# Altium schematic symbol library SmarTRC_home.SchLib: 21 symbols
Pins are listed as number, name and electrical type; pins without a type are passive.

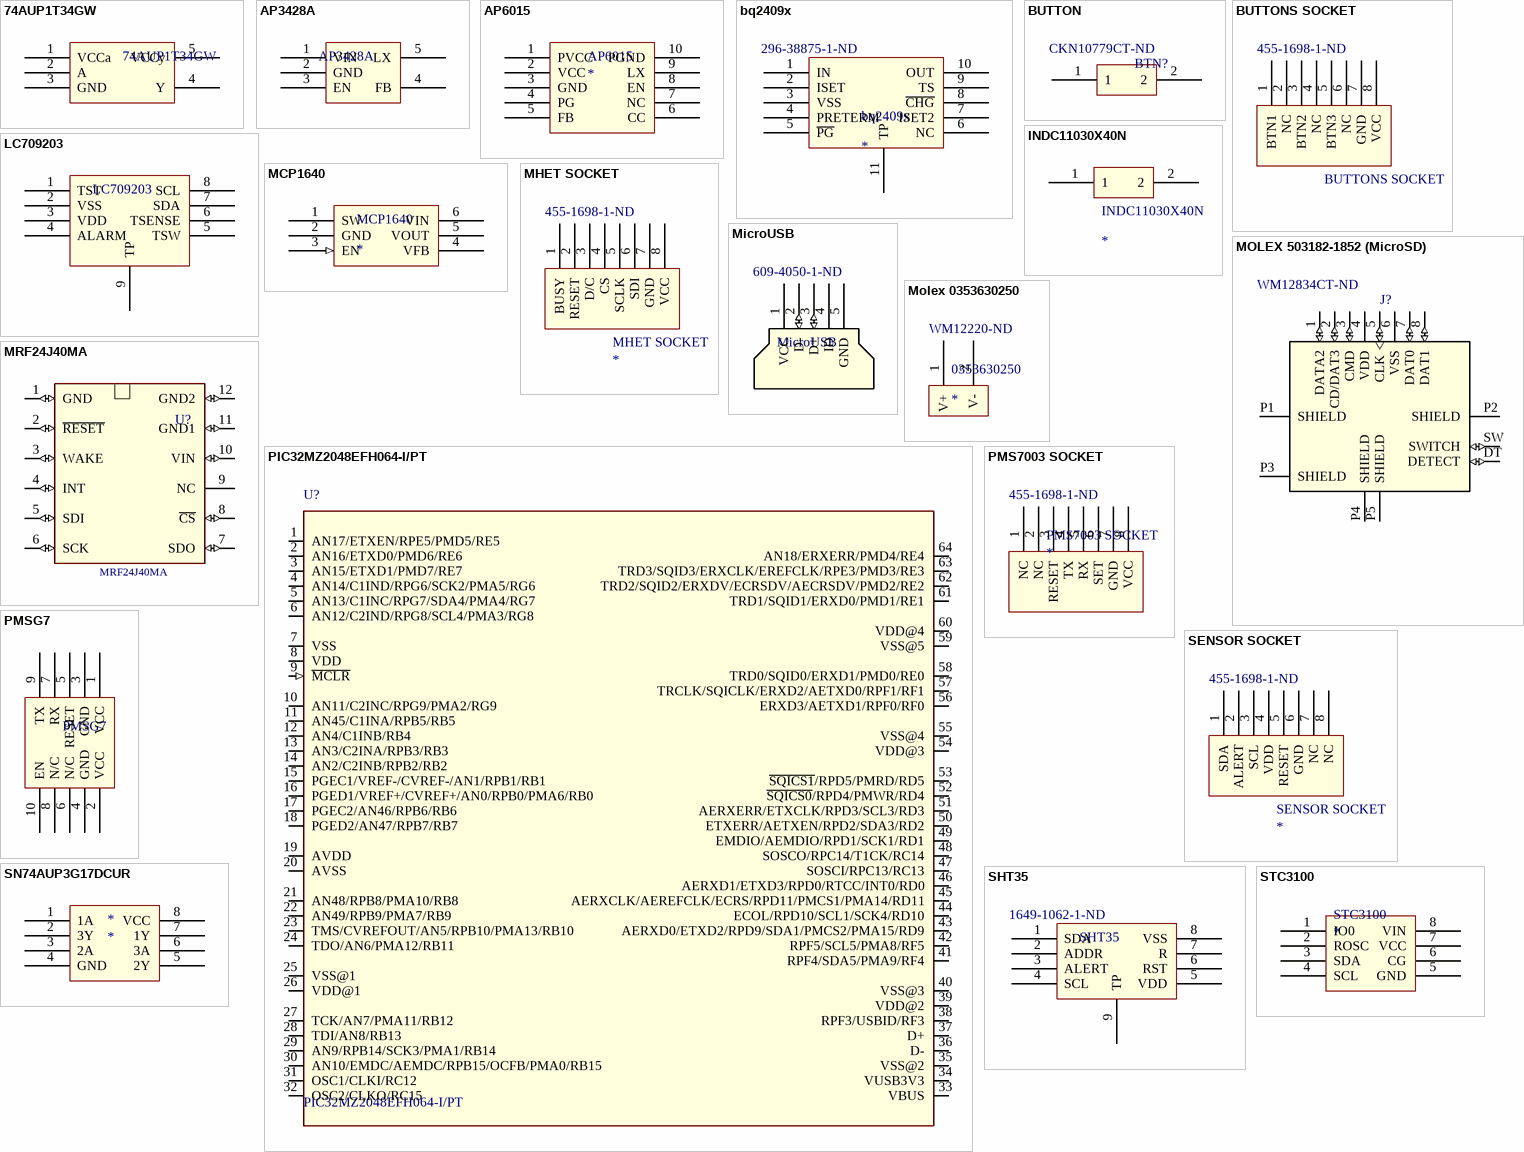
[diagram p0: symbols 74AUP1T34GW to STC3100]

## 74AUP1T34GW
designator 74AUP1T34GW
Supplier 1: Digi-Key; Supplier Part Number 1: 1727-6030-1-ND
footprint 74AUP1T34GW
pins: 1 VCCa, 2 A, 3 GND, 4 Y, 5 VCCy

## AP3428A
designator AP3428A
Supplier 1: Digi-Key; Supplier Part Number 1: AP3428AKTTR-G1DICT-ND
footprint AP3428A
pins: 1 VIN, 2 GND, 3 EN, 4 FB, 5 LX

## AP6015
designator AP6015
footprint AP6015
pins: 1 PVCC (power), 2 VCC (power), 3 GND (power), 4 PG, 5 FB, 6 CC, 7 NC, 8 EN, 9 LX, 10 PGND

## bq2409x
designator bq2409x  Supplier Part Number 1: 296-38875-1-ND
Supplier 1: Digi-Key
footprint bq2409x
pins: 1 IN (power), 2 ISET, 3 VSS (power), 4 PRETERM, 5 ~{PG}, 6 NC, 7 ISET2, 8 ~{CHG}, 9 TS, 10 OUT, 11 TP

## BUTTON
designator BTN?  Supplier Part Number 1: CKN10779CT-ND
Supplier 1: Digi-Key
footprint BUTTON
pins: 1, 2

## BUTTONS SOCKET
designator BUTTONS SOCKET  Supplier Part Number 1: 455-1698-1-ND
Supplier 1: Digi-Key
footprint S8B-ZR-SM4A-TF
pins: 1 BTN1, 2 NC, 3 BTN2, 4 NC, 5 BTN3, 6 NC, 7 GND, 8 VCC

## INDC11030X40N
designator INDC11030X40N
footprint INDC11030X40N
pins: 1, 2

## LC709203
designator LC709203
Supplier 1: Digi-Key; Supplier Part Number 1: LC709203FQH-01TWGOSCT-ND
footprint LC709203
pins: 1 TST, 2 VSS, 3 VDD, 4 ALARM, 5 TSW, 6 TSENSE, 7 SDA, 8 SCL, 9 TP

## MCP1640
designator MCP1640
footprint MCP1640
pins: 1 SW, 2 GND (power), 3 EN (in), 4 VFB, 5 VOUT (power), 6 VIN (power)

## MHET SOCKET
designator MHET SOCKET  Supplier Part Number 1: 455-1698-1-ND
Supplier 1: Digi-Key
footprint S8B-ZR-SM4A-TF
pins: 1 BUSY, 2 RESET, 3 D/C, 4 CS, 5 SCLK, 6 SDI, 7 GND, 8 VCC

## MicroUSB
designator MicroUSB  Supplier Part Number 1: 609-4050-1-ND
Supplier 1: Digi-Key
footprint MicroUSB
pins: 1 VCC (power), 2 D- (io), 3 D+ (io), 4 ID, 5 GND (power)

## MOLEX 503182-1852 (MicroSD)
designator J?  Supplier Part Number 1: WM12834CT-ND
MICRO SD NORMAL ULTRALOWPRO8CKTE; MP: 5031821852; MF: Molex; Digi-Key_Purchase_URL: https://www.digikey.es/product-detail/en/molex/5031821852/WM12834CT-ND/5823232?utm_source=snapeda&utm_medium=aggregator&utm_campaign=symbol; Package: None; SnapEDA_Link: https://www.snapeda.com/parts/5031821852/Molex/view-part/?ref=snap; Digi-Key_Part_Number: WM12834CT-ND; Value: *; Supplier 1: Digi-Key
footprint MOLEX 503182-1852 (MicroSD)
footprint MOLEX 503182-1852 (MicroSD)
pins: 1 DATA2 (io), 2 CD/DAT3 (io), 3 CMD (io), 4 VDD (power), 5 CLK (io), 6 VSS (power), 7 DAT0 (io), 8 DAT1 (io), DT DETECT (io), P1 SHIELD, P2 SHIELD, P3 SHIELD, P4 SHIELD, P5 SHIELD, SW SWITCH (io)

## Molex 0353630250
designator 0353630250  Supplier Part Number 1: WM12220-ND
Supplier 1: Digi-Key
footprint Molex 0353630250
pins: 1 V+, 2 V-

## MRF24J40MA
designator U?
Wireless Transceiver Module; MP: MRF24J40MA; MF: Microchip; Package: Module Microchip; Digi-Key_Purchase_URL: https://www.digikey.es/product-detail/en/microchip-technology/MRF24J40MAT-I-RM/MRF24J40MAT-I-RMTR-ND/2002555?utm_source=snapeda&utm_medium=aggregator&utm_campaign=symbol; Digi-Key_Part_Number: MRF24J40MAT-I/RMTR-ND; SnapEDA_Link: https://www.snapeda.com/parts/MRF24J40MA/Microchip/view-part/?ref=snap; Value: *
footprint MRF24J40MA (SM Module; 12 Leads; Body 27.9x17.8x1.7mm (LxWxH), Microchip Recommended)
pins: 1 GND (io), 2 ~{RESET} (io), 3 WAKE (io), 4 INT (io), 5 SDI (io), 6 SCK (io), 7 SDO (io), 8 ~{CS} (io), 9 NC, 10 VIN (io), 11 GND1 (io), 12 GND2 (io)

## PIC32MZ2048EFH064-I/PT
designator U?
PIC32MZ Series 2 MB Flash 512 kB RAM 200 MHz 32-Bit Microcontroller - TQFP-64; MF: Microchip; SnapEDA_Link: https://www.snapeda.com/parts/PIC32MZ2048EFH064-I/PT/Microchip/view-part/?ref=snap; Package: TQFP-64 Microchip; Availability: Unavailable; Price: None; MP: PIC32MZ2048EFH064-I/PT; Value: *
footprint PIC32MZ2048EFH064
pins: 1 AN17/ETXEN/RPE5/PMD5/RE5 (io), 2 AN16/ETXD0/PMD6/RE6 (io), 3 AN15/ETXD1/PMD7/RE7 (io), 4 AN14/C1IND/RPG6/SCK2/PMA5/RG6 (io), 5 AN13/C1INC/RPG7/SDA4/PMA4/RG7 (io), 6 AN12/C2IND/RPG8/SCL4/PMA3/RG8 (io), 7 VSS (power), 8 VDD (power), 9 ~{MCLR} (in), 10 AN11/C2INC/RPG9/PMA2/RG9 (io), 11 AN45/C1INA/RPB5/RB5 (io), 12 AN4/C1INB/RB4 (io), 13 AN3/C2INA/RPB3/RB3 (io), 14 AN2/C2INB/RPB2/RB2 (io), 15 PGEC1/VREF-/CVREF-/AN1/RPB1/RB1 (io), 16 PGED1/VREF+/CVREF+/AN0/RPB0/PMA6/RB0 (io), 17 PGEC2/AN46/RPB6/RB6 (io), 18 PGED2/AN47/RPB7/RB7 (io), 19 AVDD (power), 20 AVSS (power), 21 AN48/RPB8/PMA10/RB8 (io), 22 AN49/RPB9/PMA7/RB9 (io), 23 TMS/CVREFOUT/AN5/RPB10/PMA13/RB10 (io), 24 TDO/AN6/PMA12/RB11 (io), 25 VSS@1 (power), 26 VDD@1 (power), 27 TCK/AN7/PMA11/RB12 (io), 28 TDI/AN8/RB13 (io), 29 AN9/RPB14/SCK3/PMA1/RB14 (io), 30 AN10/EMDC/AEMDC/RPB15/OCFB/PMA0/RB15 (io), 31 OSC1/CLKI/RC12 (io), 32 OSC2/CLKO/RC15 (io), 33 VBUS (power), 34 VUSB3V3 (power), 35 VSS@2 (power), 36 D- (io), 37 D+ (io), 38 RPF3/USBID/RF3 (io), 39 VDD@2 (power), 40 VSS@3 (power), 41 RPF4/SDA5/PMA9/RF4 (io), 42 RPF5/SCL5/PMA8/RF5 (io), 43 AERXD0/ETXD2/RPD9/SDA1/PMCS2/PMA15/RD9 (io), 44 ECOL/RPD10/SCL1/SCK4/RD10 (io), 45 AERXCLK/AEREFCLK/ECRS/RPD11/PMCS1/PMA14/RD11 (io), 46 AERXD1/ETXD3/RPD0/RTCC/INT0/RD0 (io), 47 SOSCI/RPC13/RC13 (io), 48 SOSCO/RPC14/T1CK/RC14 (io), 49 EMDIO/AEMDIO/RPD1/SCK1/RD1 (io), 50 ETXERR/AETXEN/RPD2/SDA3/RD2 (io), 51 AERXERR/ETXCLK/RPD3/SCL3/RD3 (io), 52 ~{SQICS0}/RPD4/PMWR/RD4 (io), 53 ~{SQICS1}/RPD5/PMRD/RD5 (io), 54 VDD@3 (power), 55 VSS@4 (power), 56 ERXD3/AETXD1/RPF0/RF0 (io), 57 TRCLK/SQICLK/ERXD2/AETXD0/RPF1/RF1 (io), 58 TRD0/SQID0/ERXD1/PMD0/RE0 (io), 59 VSS@5 (power), 60 VDD@4 (power), 61 TRD1/SQID1/ERXD0/PMD1/RE1 (io), 62 TRD2/SQID2/ERXDV/ECRSDV/AECRSDV/PMD2/RE2 (io), 63 TRD3/SQID3/ERXCLK/EREFCLK/RPE3/PMD3/RE3 (io), 64 AN18/ERXERR/PMD4/RE4 (io)

## PMS7003 SOCKET
designator PMS7003 SOCKET  Supplier Part Number 1: 455-1698-1-ND
Supplier 1: Digi-Key
footprint S8B-ZR-SM4A-TF
pins: 1 NC, 2 NC, 3 RESET, 4 TX, 5 RX, 6 SET, 7 GND, 8 VCC

## PMSG7
designator PMSG7
Supplier 1: Digi-Key; Supplier Part Number 1: 609-3754-ND
footprint PMSG7
pins: 1 VCC, 2 VCC, 3 GND, 4 GND, 5 RESET, 6 N/C, 7 RX, 8 N/C, 9 TX, 10 EN

## SENSOR SOCKET
designator SENSOR SOCKET  Supplier Part Number 1: 455-1698-1-ND
Supplier 1: Digi-Key
footprint S8B-ZR-SM4A-TF
pins: 1 SDA, 2 ALERT, 3 SCL, 4 VDD, 5 RESET, 6 GND, 7 NC, 8 NC

## SHT35
designator SHT35  Supplier Part Number 1: 1649-1062-1-ND
Supplier 1: Digi-Key
footprint SHT35
pins: 1 SDA, 2 ADDR, 3 ALERT, 4 SCL, 5 VDD, 6 RST, 7 R, 8 VSS, 9 TP

## SN74AUP3G17DCUR
designator *
Supplier 1: Digi-Key; Supplier Part Number 1: 296-25596-1-ND
footprint SN74AUP3G17DCUR
pins: 1 1A, 2 3Y, 3 2A, 4 GND, 5 2Y, 6 3A, 7 1Y, 8 VCC

## STC3100
designator STC3100
footprint STC3100
pins: 1 IO0, 2 ROSC, 3 SDA, 4 SCL, 5 GND (power), 6 CG, 7 VCC (power), 8 VIN (power)